# EAGLE library part OLED_1.3_SH1106 (library kolio_oled)
oled 1.3 sh1106
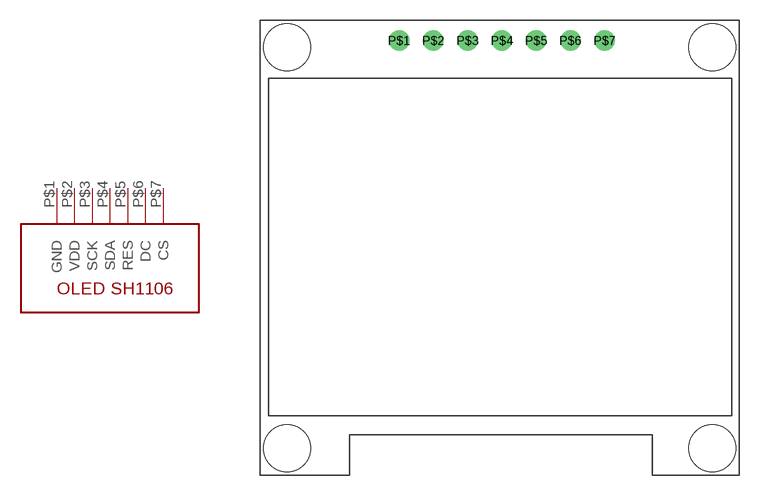
[diagram p0: symbol with the pads of OLED_1.3; footprint OLED_1.3]

Designator prefix -

## OLED_1.3_SH1106  [OLED_1.3]
P$1  GND
P$2  VDD
P$3  SCK
P$4  SDA
P$5  RES
P$6  DC
P$7  CS

## Footprint OLED_1.3 (pad centres in mm)
oled 1.3
drill 1: P$1 0,0; P$2 2.54,0; P$3 5.08,0; P$4 7.62,0; P$5 10.16,0; P$6 12.7,0; P$7 15.24,0
hole 3.5 at -8.3,-30.2
hole 3.5 at 23.21,-30.2
hole 3.5 at 23.21,-0.5
hole 3.5 at -8.3,-0.5